# Altium integrated library Connector - RF.IntLib: 17 symbols
Pins are listed as number, name and electrical type; pins without a type are passive.

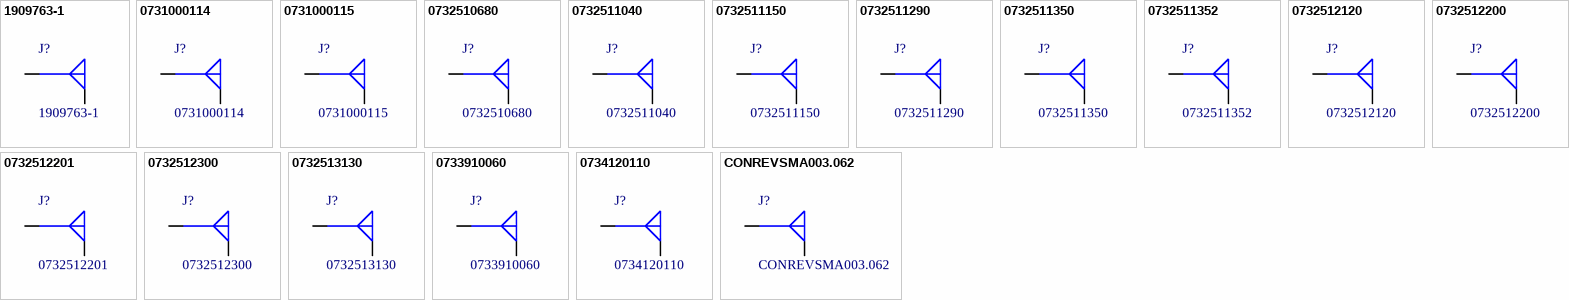
[diagram p0: symbols 1909763-1 to CONREVSMA003.062]

## 1909763-1
designator J?
CONN UMCC JACK STR 50OHM SMD; Manufacturer: TE Connectivity AMP Connectors; Style: Ultra Miniature Coaxial; Contact Termination: Solder; Frequency - Max: 6GHz; Body Material: Copper Alloy; Body Finish: Gold; Dielectric Material: Liquid Crystal Polymer (LCP); Voltage Rating: 60V; Part Number: 1909763-1; PartId: 21199; Supplier 1: Digi-Key; Supplier Part Number 1: A118077TR-ND; ComponentLink1Description: Datasheet; ComponentLink1URL: http://www.te.com/commerce/DocumentDelivery/DDEController?Action=srchrtrv&DocNm=1909763&DocType=Customer+Drawing&DocLang=English; ComponentLink2Description: Digi-Key Listing; ComponentLink2URL: http://www.digikey.ca/product-detail/en/te-connectivity-amp-connectors/1909763-1/A118077TR-ND/4731728; Price: 0.3463; Type: Jack, Male Pin; Operating Temperature: -40C ~ 90C; Series: -; Shield Termination: Solder; Impedance: 50 Ohm; Mounting Type: Surface Mount; Cable Group: -; Fastening Type: Snap-On; Features: -; Housing Colour: Ivory; Ingress Protection: -; Center Contact Material: Copper Alloy; Center Contact Plating: Gold
footprint TE C-1909763
pins: G, S

## 0731000114
designator J?
CONN SMA JACK R/A 50 OHM PCB; Manufacturer: Molex, LLC; Contact Termination: Solder; Impedance: 50 Ohm; Frequency - Max: 18GHz; Body Material: Brass; Body Finish: Gold; Center Contact Material: Beryllium Copper; Dielectric Material: Polytetrafluoroethylene (PTFE); Voltage Rating: 500V; Part Number: 0731000114; PartId: 21181; Supplier 1: Digi-Key; Supplier Part Number 1: WM5525-ND; ComponentLink1Description: Datasheet; ComponentLink1URL: http://www.molex.com/pdm_docs/sd/731000114_sd.pdf; ComponentLink2Description: Digi-Key Listing; ComponentLink2URL: http://www.digikey.ca/product-detail/en/molex-llc/0731000114/WM5525-ND/1465147; Price: 8.17; Type: Receptacle, Female Socket; Operating Temperature: -65C ~ 165C; Style: SMA; Series: 73100; Shield Termination: Solder; Mounting Type: Through Hole, Right Angle; Cable Group: -; Fastening Type: Threaded; Features: -; Housing Colour: Gold; Ingress Protection: -; Center Contact Plating: Gold
footprint MOLEX SD-73100-0114
pins: G, S

## 0731000115
designator J?
CONN SMA JACK R/A 50 OHM PCB; Manufacturer: Molex, LLC; Contact Termination: Solder; Impedance: 50 Ohm; Frequency - Max: 18GHz; Body Material: Brass; Body Finish: Nickel; Center Contact Material: Beryllium Copper; Center Contact Plating: Gold; Dielectric Material: Polytetrafluoroethylene (PTFE); Voltage Rating: 500V; Part Number: 0731000115; PartId: 21182; Supplier 1: Digi-Key; Supplier Part Number 1: WM8552-ND; ComponentLink1Description: Datasheet; ComponentLink1URL: http://www.molex.com/pdm_docs/sd/731000115_sd.pdf; ComponentLink2Description: Digi-Key Listing; ComponentLink2URL: http://www.digikey.ca/product-detail/en/molex-llc/0731000115/WM8552-ND/3044674; Price: 6.57; Type: Receptacle, Female Socket; Operating Temperature: -65C ~ 165C; Style: SMA; Series: 73100; Shield Termination: Solder; Mounting Type: Through Hole, Right Angle; Cable Group: -; Fastening Type: Threaded; Features: -; Housing Colour: Silver; Ingress Protection: -
footprint MOLEX SD-73100-0115
pins: G, S

## 0732510680
designator J?
CONN RP-SMA JACK 50 OHM EDGE MNT; Manufacturer: Molex, LLC; Contact Termination: Solder; Impedance: 50 Ohm; Frequency - Max: 18GHz; Body Material: Brass; Body Finish: Gold; Dielectric Material: Polytetrafluoroethylene (PTFE); Voltage Rating: 500V; Part Number: 0732510680; PartId: 21183; Supplier 1: Digi-Key; Supplier Part Number 1: 0732510680-ND; ComponentLink1Description: Datasheet; ComponentLink1URL: http://www.molex.com/pdm_docs/sd/732510680_sd.pdf; ComponentLink2Description: Digi-Key Listing; ComponentLink2URL: http://www.digikey.ca/product-search/en?keywords=73251068; Price: 3.4865; Type: Jack, Male Pin; Operating Temperature: -65C ~ 165C; Style: RP-SMA; Series: 73251; Shield Termination: Solder; Mounting Type: Board Edge, End Launch; Cable Group: -; Fastening Type: Threaded; Features: -; Housing Colour: Gold; Ingress Protection: -; Center Contact Material: Brass; Center Contact Plating: Gold
footprint MOLEX SD-73251-068
pins: G, S

## 0732511040
designator J?
CONN RP-SMA JACK 50 OHM EDGE MNT; Manufacturer: Molex, LLC; Contact Termination: Solder; Impedance: 50 Ohm; Frequency - Max: 18GHz; Body Material: Brass; Body Finish: Gold; Dielectric Material: Polytetrafluoroethylene (PTFE); Voltage Rating: 500V; Part Number: 0732511040; PartId: 21184; Supplier 1: Digi-Key; Supplier Part Number 1: 0732511040-ND; ComponentLink1Description: Datasheet; ComponentLink1URL: http://www.molex.com/pdm_docs/sd/732511040_sd.pdf; ComponentLink2Description: Digi-Key Listing; ComponentLink2URL: http://www.digikey.ca/product-detail/en/molex-llc/0732511040/0732511040-ND/3468832; Price: 4.1651; Type: Jack, Male Pin; Operating Temperature: -65C ~ 165C; Style: RP-SMA; Series: 73251; Shield Termination: Solder; Mounting Type: Board Edge, End Launch; Panel Mount, Bulkhead; Cable Group: -; Fastening Type: Threaded; Features: -; Housing Colour: Gold; Ingress Protection: -; Center Contact Material: Brass; Center Contact Plating: Gold
footprint MOLEX SD-73251-104
pins: G, S

## 0732511150
designator J?
CONN SMA JACK 50 OHM EDGE MNT; Manufacturer: Molex, LLC; Contact Termination: Solder; Impedance: 50 Ohm; Frequency - Max: 18GHz; Body Material: Brass; Body Finish: Gold; Center Contact Material: Beryllium Copper; Dielectric Material: Polytetrafluoroethylene (PTFE); Voltage Rating: 500V; Part Number: 0732511150; PartId: 21185; Supplier 1: Digi-Key; Supplier Part Number 1: WM5534-ND; ComponentLink1Description: Datasheet; ComponentLink1URL: http://www.molex.com/pdm_docs/sd/732511150_sd.pdf; ComponentLink2Description: Digi-Key Listing; ComponentLink2URL: http://www.digikey.ca/product-detail/en/molex-llc/0732511150/WM5534-ND/1465156; Price: 4.81; Type: Receptacle, Female Socket; Operating Temperature: -65C ~ 165C; Style: SMA; Series: 73251; Shield Termination: Solder; Mounting Type: Board Edge, End Launch; Cable Group: -; Fastening Type: Threaded; Features: -; Housing Colour: Gold; Ingress Protection: -; Center Contact Plating: Gold
footprint MOLEX SD-73251-115
pins: G, S

## 0732511290
designator J?
CONN SMA JACK EDGE MNT 50 OHM; Manufacturer: Molex, LLC; Contact Termination: Solder; Impedance: 50 Ohm; Frequency - Max: 18GHz; Body Material: Brass; Body Finish: Gold; Center Contact Material: Beryllium Copper; Dielectric Material: Polytetrafluoroethylene (PTFE); Voltage Rating: 500V; Part Number: 0732511290; PartId: 21186; Supplier 1: Digi-Key; Supplier Part Number 1: WM9461-ND; ComponentLink1Description: Datasheet; ComponentLink1URL: http://www.molex.com/pdm_docs/sd/732511290_sd.pdf; ComponentLink2Description: Digi-Key Listing; ComponentLink2URL: http://www.digikey.ca/product-detail/en/molex-llc/0732511290/WM9461-ND/3878247; Price: 9.53; Type: Jack, Female Socket; Operating Temperature: -65C ~ 165C; Style: SMA; Series: 73251; Shield Termination: Solder; Mounting Type: Board Edge, End Launch; Panel Mount, Bulkhead; Cable Group: -; Fastening Type: Threaded; Features: -; Housing Colour: Gold; Ingress Protection: -; Center Contact Plating: Gold
footprint MOLEX SD-73251-129
pins: G, S

## 0732511350
designator J?
CONN SMA JACK STR 50 OHM SMD; Manufacturer: Molex, LLC; Contact Termination: Solder; Impedance: 50 Ohm; Frequency - Max: 18GHz; Part Number: 0732511350; PartId: 21188; Supplier 1: Digi-Key; Supplier Part Number 1: WM9357-ND; ComponentLink1Description: Datasheet; ComponentLink1URL: http://www.molex.com/pdm_docs/sd/732511352_sd.pdf; ComponentLink2Description: Digi-Key Listing; ComponentLink2URL: https://www.digikey.com/product-detail/en/molex-llc/0732511350/WM9357-ND/3468834; Price: 4.65; Type: Jack, Female Socket; Style: SMA; Series: 73251; Shield Termination: Solder; Mounting Type: Surface Mount; Fastening Type: Threaded; Housing Colour: Gold
footprint MOLEX SD-73251-135 (Gold)
pins: G, S

## 0732511352
designator J?
CONN SMA JACK STR 50 OHM SMD; Manufacturer: Molex, LLC; Contact Termination: Solder; Impedance: 50 Ohm; Frequency - Max: 18GHz; Part Number: 0732511352; PartId: 21187; Supplier 1: Digi-Key; Supplier Part Number 1: WM9458-ND; ComponentLink1Description: Datasheet; ComponentLink1URL: http://www.molex.com/pdm_docs/sd/732511352_sd.pdf; ComponentLink2Description: Digi-Key Listing; ComponentLink2URL: https://www.digikey.com/product-detail/en/molex-llc/0732511352/WM9458-ND/3878244; Price: 4.62; Type: Jack, Female Socket; Style: SMA; Series: 73251; Shield Termination: Solder; Mounting Type: Surface Mount; Fastening Type: Threaded; Housing Colour: Gold
footprint MOLEX SD-73251-135 (Gold)
pins: G, S

## 0732512120
designator J?
CONN SMA JACK 50 OHM EDGE MNT; Manufacturer: Molex, LLC; Contact Termination: Solder; Impedance: 50 Ohm; Frequency - Max: 18GHz; Body Material: Brass; Body Finish: Gold; Center Contact Material: Beryllium Copper; Dielectric Material: Polytetrafluoroethylene (PTFE); Voltage Rating: 500V; Part Number: 0732512120; PartId: 21189; Supplier 1: Digi-Key; Supplier Part Number 1: WM5536-ND; ComponentLink1Description: Datasheet; ComponentLink1URL: http://www.molex.com/pdm_docs/sd/732512120_sd.pdf; ComponentLink2Description: Digi-Key Listing; ComponentLink2URL: http://www.digikey.ca/product-detail/en/molex-llc/0732512120/WM5536-ND/1465158; Price: 5.01; Type: Jack, Female Socket; Operating Temperature: -65C ~ 165C; Style: SMA; Series: 73251; Shield Termination: Solder; Mounting Type: Board Edge, End Launch; Panel Mount, Bulkhead; Cable Group: -; Fastening Type: Threaded; Features: -; Housing Colour: Gold; Ingress Protection: -; Center Contact Plating: Gold
footprint MOLEX SD-73251-212
pins: G, S

## 0732512200
designator J?
CONN SMA JACK R/A 50 OHM PCB; Manufacturer: Molex, LLC; Contact Termination: Solder; Impedance: 50 Ohm; Frequency - Max: 18GHz; Body Material: Brass; Body Finish: Nickel; Center Contact Material: Beryllium Copper; Center Contact Plating: Gold; Dielectric Material: Polytetrafluoroethylene (PTFE); Voltage Rating: 500V; Part Number: 0732512200; PartId: 21190; Supplier 1: Digi-Key; Supplier Part Number 1: WM9352-ND; ComponentLink1Description: Datasheet; ComponentLink1URL: http://www.molex.com/pdm_docs/sd/732512200_sd.pdf; ComponentLink2Description: Digi-Key Listing; ComponentLink2URL: http://www.digikey.ca/product-detail/en/molex-llc/0732512200/WM9352-ND/3468838; Price: 7.91; Type: Jack, Female Socket; Operating Temperature: -65C ~ 165C; Style: SMA; Series: 73251; Shield Termination: Solder; Mounting Type: Panel Mount, Bulkhead; Through Hole, Right Angle; Cable Group: -; Fastening Type: Threaded; Features: -; Housing Colour: Silver; Ingress Protection: -
footprint MOLEX SD-73251-220 (Nickel, 2.79mm feet)
pins: G, S

## 0732512201
designator J?
CONN SMA JACK R/A 50 OHM PCB; Manufacturer: Molex, LLC; Contact Termination: Solder; Impedance: 50 Ohm; Frequency - Max: 18GHz; Body Material: Brass; Body Finish: Gold; Center Contact Material: Beryllium Copper; Dielectric Material: Polytetrafluoroethylene (PTFE); Voltage Rating: 500V; Part Number: 0732512201; PartId: 21191; Supplier 1: Digi-Key; Supplier Part Number 1: WM5537-ND; ComponentLink1Description: Datasheet; ComponentLink1URL: http://www.molex.com/pdm_docs/sd/732512201_sd.pdf; ComponentLink2Description: Digi-Key Listing; ComponentLink2URL: http://www.digikey.ca/product-detail/en/molex-llc/0732512201/WM5537-ND/1465159; Price: 9.32; Type: Jack, Female Socket; Operating Temperature: -65C ~ 165C; Style: SMA; Series: 73251; Shield Termination: Solder; Mounting Type: Panel Mount, Bulkhead; Through Hole, Right Angle; Cable Group: -; Fastening Type: Threaded; Features: -; Housing Colour: Gold; Ingress Protection: -; Center Contact Plating: Gold
footprint MOLEX SD-73251-220 (Gold, 2.79mm feet)
pins: G, S

## 0732512300
designator J?
CONN RP-SMA JACK STR 50 OHM PCB; Manufacturer: Molex, LLC; Contact Termination: Solder; Impedance: 50 Ohm; Frequency - Max: 18GHz; Body Material: Brass; Body Finish: Nickel; Center Contact Plating: Gold; Dielectric Material: Polytetrafluoroethylene (PTFE); Voltage Rating: 500V; Part Number: 0732512300; PartId: 21192; Supplier 1: Digi-Key; Supplier Part Number 1: WM14067-ND; ComponentLink1Description: Datasheet; ComponentLink1URL: http://www.molex.com/pdm_docs/sd/732512300_sd.pdf; ComponentLink2Description: Digi-Key Listing; ComponentLink2URL: http://www.digikey.ca/product-detail/en/molex-llc/0732512300/WM14067-ND/3468839; Price: 6.15; Type: Jack, Male Pin; Operating Temperature: -65C ~ 165C; Style: RP-SMA; Series: 73251; Shield Termination: Solder; Mounting Type: Through Hole; Cable Group: -; Fastening Type: Threaded; Features: -; Housing Colour: Silver; Ingress Protection: -; Center Contact Material: Brass
footprint MOLEX SD-73251-230
pins: G, S

## 0732513130
designator J?
CONN SMA JACK R/A 50OHM SOLDER; Manufacturer: Molex, LLC; Frequency - Max: 18GHz; Body Material: Brass; Body Finish: Gold; Center Contact Material: Beryllium Copper; Dielectric Material: Polytetrafluoroethylene (PTFE); Voltage Rating: 500V; Part Number: 0732513130; PartId: 21194; Supplier 1: Digi-Key; Supplier Part Number 1: 0732513130-ND; ComponentLink1Description: Datasheet; ComponentLink1URL: //media.digikey.com/pdf/Data%20Sheets/Molex%20PDFs/SMA_Spec.pdf; ComponentLink2Description: Digi-Key Listing; ComponentLink2URL: http://www.digikey.ca/product-detail/en/molex-llc/0732513130/0732513130-ND/4553885; Price: 6.1173; Type: Jack, Female Socket; Operating Temperature: -65C ~ 165C; Style: SMA; Series: 73251; Contact Termination: Solder; Shield Termination: Solder; Impedance: 50 Ohm; Mounting Type: Through Hole, Right Angle; Cable Group: -; Fastening Type: Threaded; Features: -; Housing Colour: Gold; Ingress Protection: -; Center Contact Plating: Gold
footprint MOLEX SD-73100-0114
pins: G, S

## 0733910060
designator J?
CONN SMA JACK STR 50 OHM PCB; Manufacturer: Molex, LLC; Contact Termination: Solder; Impedance: 50 Ohm; Frequency - Max: 18GHz; Body Material: Brass; Body Finish: Gold; Center Contact Material: Beryllium Copper; Dielectric Material: Polytetrafluoroethylene (PTFE); Voltage Rating: 500V; Part Number: 0733910060; PartId: 21193; Supplier 1: Digi-Key; Supplier Part Number 1: WM5543-ND; ComponentLink1Description: Datasheet; ComponentLink1URL: http://www.molex.com/pdm_docs/sd/733910060_sd.pdf; ComponentLink2Description: Digi-Key Listing; ComponentLink2URL: http://www.digikey.ca/product-detail/en/molex-llc/0733910060/WM5543-ND/1465165; Price: 4.32; Type: Receptacle, Female Socket; Operating Temperature: -65C ~ 165C; Style: SMA; Series: 73391; Shield Termination: Solder; Mounting Type: Through Hole; Cable Group: -; Fastening Type: Threaded; Features: -; Housing Colour: Gold; Ingress Protection: -; Center Contact Plating: Gold
footprint MOLEX SD-73391-0060
pins: G, S

## 0734120110
designator J?
CONN UMC RCPT STR 50 OHM SMD; Manufacturer: Molex, LLC; Style: Ultra Miniature Coaxial; Contact Termination: Solder; Impedance: 50 Ohm; Frequency - Max: 6GHz; Body Material: Phosphor Bronze; Body Finish: Nickel; Center Contact Material: Brass; Center Contact Plating: Gold; Dielectric Material: Liquid Crystal Polymer (LCP); Voltage Rating: 60V; Part Number: 0734120110; PartId: 21200; Supplier 1: Digi-Key; Supplier Part Number 1: WM5587TR-ND; ComponentLink1Description: Datasheet; ComponentLink1URL: http://www.molex.com/pdm_docs/sd/734120110_sd.pdf; ComponentLink2Description: Digi-Key Listing; ComponentLink2URL: http://www.digikey.ca/product-detail/en/molex-llc/0734120110/WM5587TR-ND/1894611; Price: 0.4361; Type: Receptacle, Male Pin; Operating Temperature: -40C ~ 90C; Series: 73412; Shield Termination: Solder; Mounting Type: Surface Mount; Cable Group: -; Fastening Type: Snap-On; Features: -; Housing Colour: Silver; Ingress Protection: -
footprint MOLEX SD-734120110
pins: G, S

## CONREVSMA003.062
designator J?
CONN RP-SMA JACK 50 OHM EDGE MNT; Manufacturer: Linx Technologies Inc.; Contact Termination: Solder; Impedance: 50 Ohm; Body Material: Brass; Body Finish: Nickel; Center Contact Plating: Gold; Dielectric Material: Polytetrafluoroethylene (PTFE); Part Number: CONREVSMA003.062; PartId: 16435; Supplier 1: Digi-Key; Supplier Part Number 1: CONREVSMA003.062-ND; ComponentLink1Description: Datasheet; ComponentLink1URL: http://www.linxtechnologies.com/resources/diagrams/conrevsma003.062.pdf; ComponentLink2Description: Digi-Key Listing; ComponentLink2URL: http://www.digikey.com/product-detail/en/linx-technologies-inc/CONREVSMA003.062/CONREVSMA003.062-ND/340147; Price: 3.6; Type: Receptacle, Male Pin; Operating Temperature: -65C ~ 165C; Style: RP-SMA; Series: -; Shield Termination: Solder; Mounting Type: Board Edge, End Launch; Cable Group: -; Fastening Type: Threaded; Frequency - Max: -; Features: -; Housing Colour: Silver; Ingress Protection: -; Center Contact Material: Brass; Voltage Rating: -
footprint LINX CONREVSMA003.062
pins: G, S